# Altium footprint library PCB - LEADLESS - WLCSP - TOSHIBA WCSP-4 WCSP4F.PcbLib: 1 footprints
Each footprint in its own frame and in the unit in brackets; x right, y up, seen from the top. Pads: shape width x height; smd on the part's side, far side on the other; paste and mask are expansions set on the pad; w line width, h text height; cw(c..) or ccw(c..) is an arc to the next point about the centre after c.
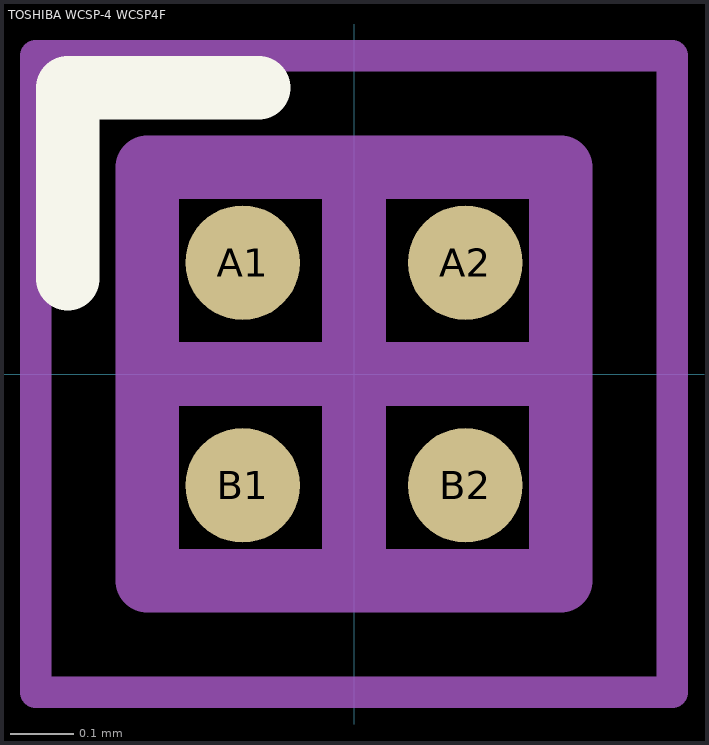
[diagram p0: the footprint, top view; thin cyan lines are the x and y axes]

## TOSHIBA WCSP-4 WCSP4F [mm] "WCSP, 4-Leads, Body 0.65x0.65mmx0.33mm, Pitch 0.35mm"
height 0.33
pads (4):
  round 0.18 smd: A1(-0.175,0.175) A2(0.175,0.175) B1(-0.175,-0.175) B2(0.175,-0.175)
Top Overlay:
  lines w0.1: -0.45,0.15 -0.45,0.45 -0.15,0.45
Mechanical 13:
  lines w0.1: -0.325,-0.325 0.325,-0.325 0.325,0.325 -0.325,0.325 -0.325,-0.325
Mechanical 15:
  lines w0.05: -0.5,-0.5 0.5,-0.5 0.5,0.5 -0.5,0.5 -0.5,-0.5
  lines w0.1: -0.3,0 0.3,0 ; 0,-0.3 0,0.3
3D body "TOSHIBA WCSP-4 WCSP4F.step": height 0.33, standoff 0, extent -0.325,-0.325 0.325,0.325